# EAGLE library part TPS259630DDAR (library TPS259630DDAR)
Hot Swap Voltage Controllers 2.7-19V 130MA-2A SURGE CLAMPING EFUSE Source: Datasheet <https://www.ti.com/lit/gpn/TPS2596>
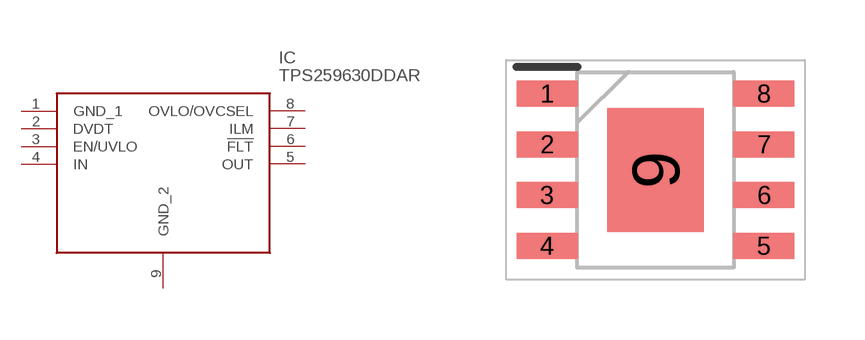
[diagram p0: symbol with the pads of SOIC127P600X170-9N; footprint SOIC127P600X170-9N]

Designator prefix IC

## TPS259630DDAR (Arrow_Part_Number: TPS259630DDAR; Arrow_Price-Stock: https://www.arrow.com/en/products/tps259630ddar/texas-instruments; Description: Hot Swap Voltage Controllers 2.7-19V 130MA-2A SURGE CLAMPING EFUSE; Height: 1.7mm; Manufacturer_Name: Texas Instruments; Manufacturer_Part_Number: TPS259630DDAR; Mouser_Part_Number: 595-TPS259630DDAR; Mouser_Price-Stock: https://www.mouser.co.uk/ProductDetail/Texas-Instruments/TPS259630DDAR?qs=T3oQrply3y%252BCA0rOFESTyA%3D%3D)  [SOIC127P600X170-9N]
1  GND_1
2  DVDT
3  EN/UVLO
4  IN
5  OUT
6  !FLT
7  ILM
8  OVLO/OVCSEL
9  GND_2

## Footprint SOIC127P600X170-9N (pad centres in mm)
DDA (R-PDSO-G8)
smd 1.525 x 0.65: 1 -2.712,1.905; 2 -2.712,0.635; 3 -2.712,-0.635; 4 -2.712,-1.905; 5 2.712,-1.905; 6 2.712,-0.635; 7 2.712,0.635; 8 2.712,1.905
smd 2.4 x 3.1: 9 0,0